# Altium footprint library 7914G1032E.PcbLib: 1 footprints
Each footprint in its own frame and in the unit in brackets; x right, y up, seen from the top. Pads: shape width x height; smd on the part's side, far side on the other; paste and mask are expansions set on the pad; w line width, h text height; cw(c..) or ccw(c..) is an arc to the next point about the centre after c.
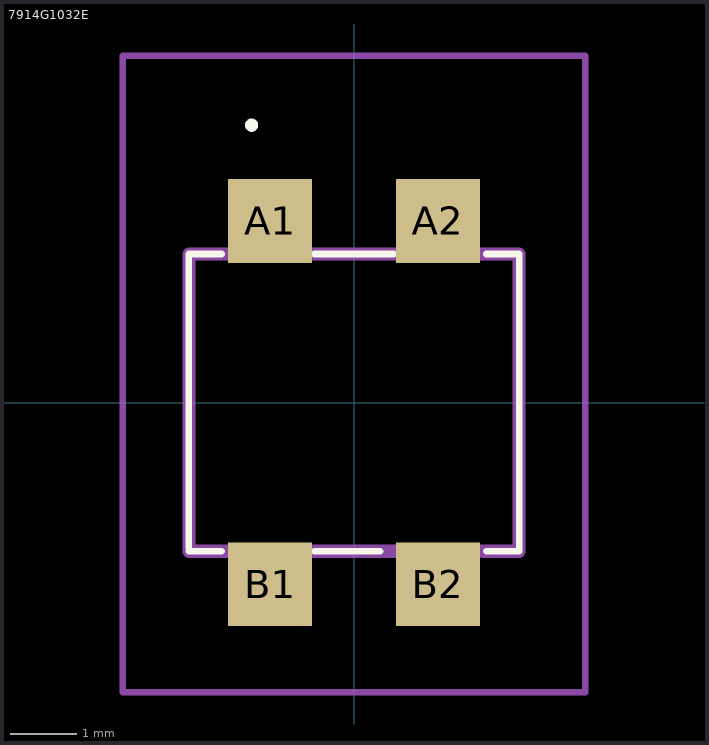
[diagram p0: the footprint, top view; thin cyan lines are the x and y axes]

## 7914G1032E [mm]
pads (4):
  rect 1.27x1.27 smd: A1(-1.27,2.75) A2(1.27,2.75) B1(-1.27,-2.75) B2(1.27,-2.75)
Top Overlay:
  lines w0.1: -2.5,-2.25 -2,-2.25 ; -2.5,-2.2 -2.5,2.25 -2,2.25 ; -0.6,-2.25 0.4,-2.25 ; -0.6,2.25 0.6,2.25 ; 2,-2.25 2.5,-2.25 2.5,2.25 2,2.25 ; -1.6,4.2 -1.6,4.2 ; -1.6,4.2 ccw(c-1.55,4.2) -1.5,4.2 ; -1.6,4.2 cw(c-1.55,4.2) -1.5,4.2 ; -1.5,4.2 -1.5,4.2
Mechanical 15:
  lines w0.2: -2.5,-2.25 2.5,-2.25 2.5,2.25 -2.5,2.25 -2.5,-2.25
Mechanical 20:
  lines w0.1: -3.5,-4.385 3.5,-4.385 3.5,5.25 -3.5,5.25 -3.5,-4.385